# EAGLE library part SN74LVC2G04 (library m-pad)
Ti's SN74LVC2G04 DUAL INVERTER GATE Description: This dual inverter is designed for 1.65-V to 5.5-V VCC operation. The SN74LVC2G04 performs the Boolean function Y = /A. NanoStar and NanoFree package technology is a major breakthrough in IC packaging concepts, using the die as the package. This device is fully specified for partial-power-down applications using Ioff. The Ioff circuitry disables the outputs, preventing damaging current backflow through the device when it is powered down. Features: Available in the Texas Instruments NanoStar and NanoFree Packages Supports 5-V VCC Operation Inputs Accept Voltages to 5.5 V Max tpd of 4.1 ns at 3.3 V Low Power Consumption, 10-uA Max ICC ±24-mA Output Drive at 3.3 V Typical VOLP (Output Ground Bounce) less then 0.8 V at VCC = 3.3 V, TA = 25°C Typical VOHV (Output VOH Undershoot) greater then2 V at VCC = 3.3 V, TA = 25°C Ioff Supports Partial-Power-Down Mode Operation Latch-Up Performance Exceeds 100 mA Per JESD 78, Class II ESD Protection Exceeds JESD 22 - 2000-V Human-Body Model (A114-A) - 200-V Machine Model (A115-A) - 1000-V Charged-Device Model (C101) Please send any comments to: messi@users.sourceforge.net
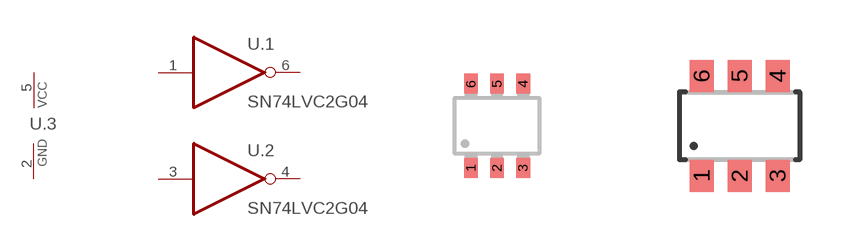
[diagram p105: symbol with the pads of SC-70-6; footprints SC-70-6, SOT23-6]

Designator prefix U; gates .1=7404 .2=7404 .3=PWR_GND

## SN74LVC2G04-DCK  [SC-70-6]
1  .1:A  in
2  .3:GND  pwr
3  .2:A  in
4  .2:Y  out
5  .3:VCC  pwr
6  .1:Y  out

## SN74LVC2G04-DBV  [SOT23-6]
Pads as for SC-70-6

## Footprint SC-70-6 (pad centres in mm)
Texas Instruments Package SC-70-6 (-DCK)
smd 0.35 x 0.5: 1 -0.65,-1.05; 2 0,-1.05; 3 0.65,-1.05; 4 0.65,1.05; 5 0,1.05; 6 -0.65,1.05

## Footprint SOT23-6 (pad centres in mm)
Small Outline Transistor 6 lead
smd 0.6 x 0.8: 1 -0.95,-1.25; 2 0,-1.25; 3 0.95,-1.25; 4 0.95,1.25; 5 0,1.25; 6 -0.95,1.25